# Altium footprint library PcbLib_KM_PBL4.PcbLib: 2 footprints
Each footprint in its own frame and in the unit in brackets; x right, y up, seen from the top. Pads: shape width x height; smd on the part's side, far side on the other; paste and mask are expansions set on the pad; w line width, h text height; cw(c..) or ccw(c..) is an arc to the next point about the centre after c.
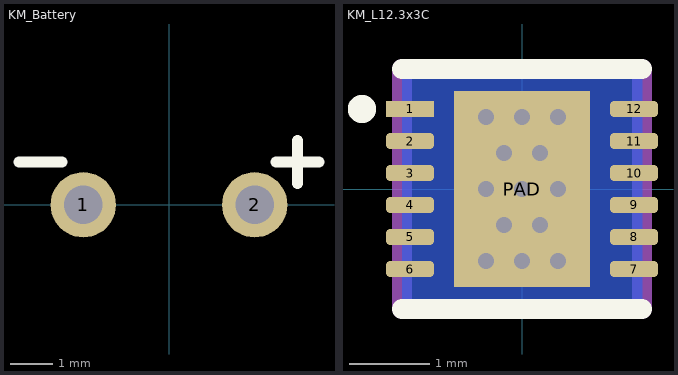
[diagram p0: the footprints below, top view; thin cyan lines are the x and y axes]

## KM_Battery [mm]
pads (2):
  round 1.524 hole 0.9: 1(-2,0) 2(2,0)
Top Overlay:
  lines w0.254: -3.5,1 -2.5,1 ; 2.5,1 3.5,1 ; 3,0.5 3,1.5 ; 3.5,1 3.5,1

## KM_L12.3x3C [mm] "KM_L12.3x3C"
height 0.75
pads (13):
  rrect10% 0.6x0.2 smd: 1(-1.4,1)
  rrect50% 0.6x0.2 smd: 2(-1.4,0.6) 3(-1.4,0.2) 4(-1.4,-0.2) 5(-1.4,-0.6) 6(-1.4,-1) 7(1.4,-1) 8(1.4,-0.6) 9(1.4,-0.2) 10(1.4,0.2) 11(1.4,0.6) 12(1.4,1)
  rect 1.7x2.45 smd: PAD(0,0)
via 0.45,0.9 diameter 0.3 hole 0.2
via 0,0.9 diameter 0.3 hole 0.2
via -0.45,0.9 diameter 0.3 hole 0.2
via -0.45,-0.9 diameter 0.3 hole 0.2
via 0.45,-0.9 diameter 0.3 hole 0.2
via 0,-0.9 diameter 0.3 hole 0.2
via -0.225,-0.45 diameter 0.3 hole 0.2
via 0.225,-0.45 diameter 0.3 hole 0.2
via 0.225,0.45 diameter 0.3 hole 0.2
via -0.225,0.45 diameter 0.3 hole 0.2
via -0.45,0 diameter 0.3 hole 0.2
via 0.45,0 diameter 0.3 hole 0.2
via 0,0 diameter 0.3 hole 0.2
Bottom Layer:
  region: -1.5,1.5 1.5,1.5 1.5,-1.5 -1.5,-1.5
Top Overlay:
  circle w0.254: c-2,1 r0.05
  lines w0.254: -1.5,-1.5 1.5,-1.5 ; -1.5,1.5 1.5,1.5
Mechanical 1:
  lines w0.254: -1.5,-1.5 1.5,-1.5 1.5,1.5 -1.5,1.5 -1.5,-1.5